# EAGLE library part HONEYWELL_HMC5983-TR (library Upverter Library)
3-Axis Digital Compass IC
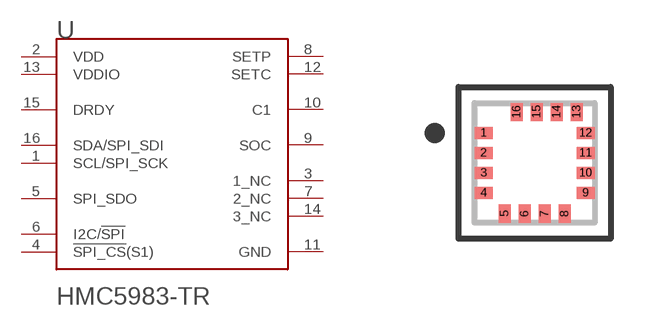
[diagram p0: symbol with the pads of HONEYWELL_HMC5983-TR_0; footprint HONEYWELL_HMC5983-TR_0]

Designator prefix U

## HONEYWELL_HMC5983-TRHONEYWELL_HMC5983-TR_0_0 (MF: Honeywell; MPN: HMC5983-TR; centroid_not_specified: No; datasheet: https://aerocontent.honeywell.com/aero/common/documents/myaerospacecatalog-documents/Defense_Brochures-documents/HMC5983_3_Axis_Compass_IC.pdf; digikey_description: IC Magnetoresistive Sensor X, Y, Z Axis 16-LPCC (3x3); digikey_part_number: 342-1092-1-ND; lead_free: yes; package: LPCC16; prefix: U; rohs: yes; temperature_range_high: +85°C; temperature_range_low: -30°C)  [HONEYWELL_HMC5983-TR_0]
1  SCL/SPI_SCK
2  VDD
3  1_NC
4  !SPI_CS!(S1)
5  SPI_SDO
6  I2C/!SPI!
7  2_NC
8  SETP
9  SOC
10  C1
11  GND
12  SETC
13  VDDIO
14  3_NC
15  DRDY
16  SDA/SPI_SDI

## Footprint HONEYWELL_HMC5983-TR_0 (pad centres in mm)
3-Axis Digital Compass IC
smd 0.45 x 0.3: 1 -1.275,0.75; 2 -1.275,0.25; 3 -1.275,-0.25; 4 -1.275,-0.75; 9 1.275,-0.75; 10 1.275,-0.25; 11 1.275,0.25; 12 1.275,0.75
smd 0.3 x 0.45: 5 -0.75,-1.275; 6 -0.25,-1.275; 7 0.25,-1.275; 8 0.75,-1.275; 13 1.05,1.275; 14 0.55,1.275; 15 0.05,1.275; 16 -0.45,1.275